# EAGLE library part TM4C123GH6PGET (library 32bits)
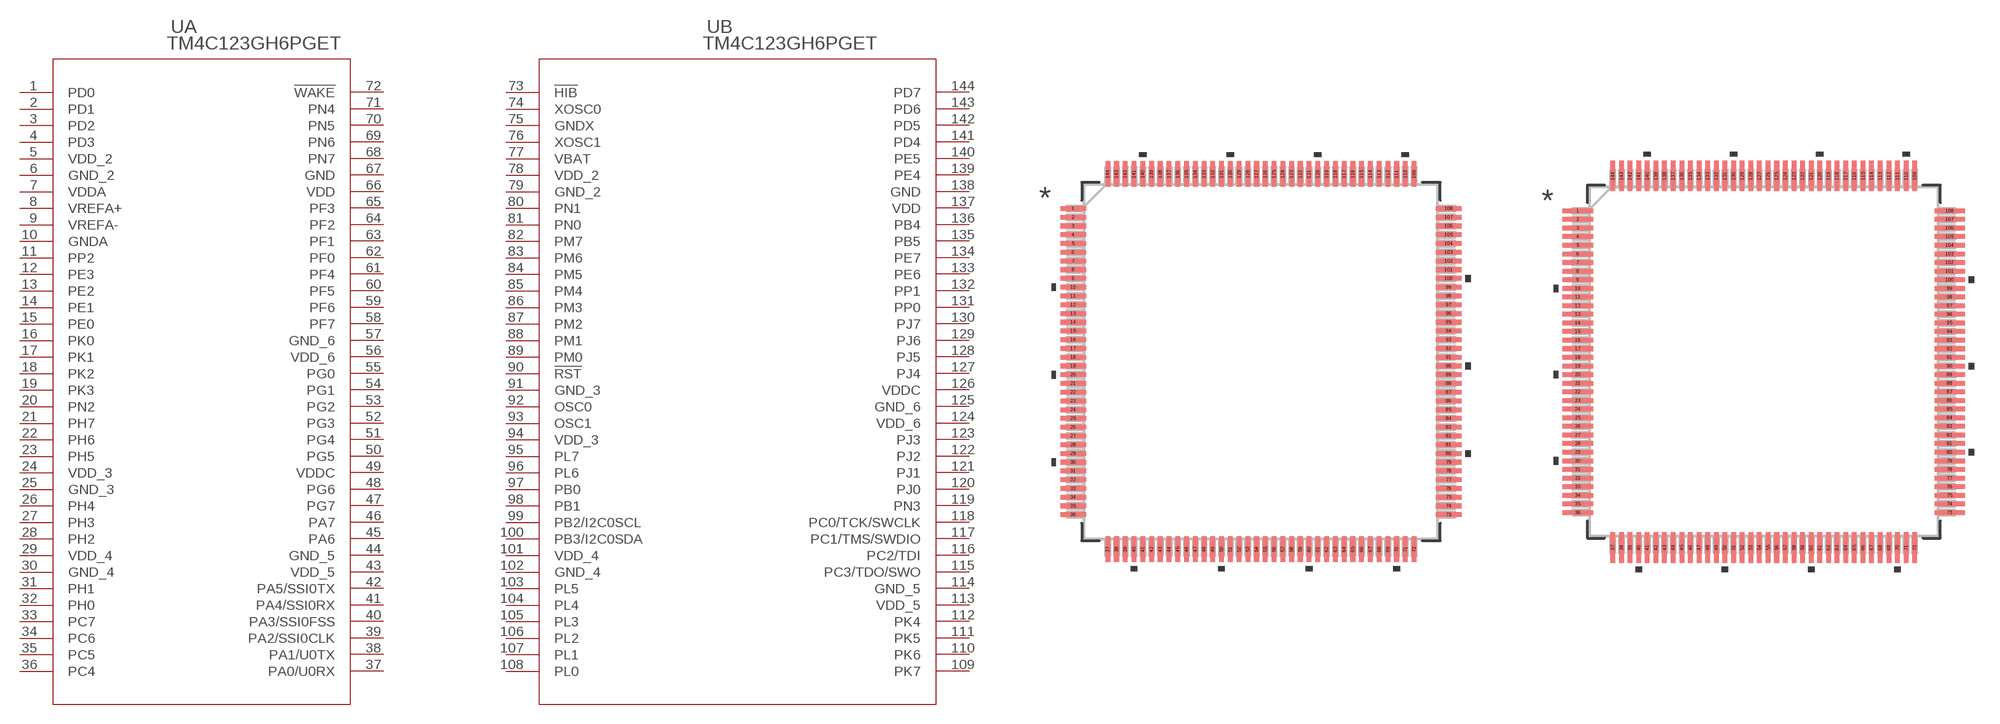
[diagram p8: symbol with the pads of PGE144; footprints PGE144, PGE144-M]

Designator prefix U; gates A=TM4C123GH6PGET_A B=TM4C123GH6PGET_B

## TM4C123GH6PGET (MANUFACTURER_PART_NUMBER: tm4c123gh6pget; VENDOR: Texas Instruments)  [PGE144]
1  A:PD0
2  A:PD1
3  A:PD2
4  A:PD3
5  A:VDD_2  pwr
6  A:GND_2  pwr
7  A:VDDA  pwr
8  A:VREFA+  pwr
9  A:VREFA-  pwr
10  A:GNDA  pwr
11  A:PP2
12  A:PE3
13  A:PE2
14  A:PE1
15  A:PE0
16  A:PK0
17  A:PK1
18  A:PK2
19  A:PK3
20  A:PN2
21  A:PH7
22  A:PH6
23  A:PH5
24  A:VDD_3  pwr
25  A:GND_3  pwr
26  A:PH4
27  A:PH3
28  A:PH2
29  A:VDD_4  pwr
30  A:GND_4  pwr
31  A:PH1
32  A:PH0
33  A:PC7
34  A:PC6
35  A:PC5
36  A:PC4
37  A:PA0/U0RX
38  A:PA1/U0TX
39  A:PA2/SSI0CLK
40  A:PA3/SSI0FSS
41  A:PA4/SSI0RX
42  A:PA5/SSI0TX
43  A:VDD_5  pwr
44  A:GND_5  pwr
45  A:PA6
46  A:PA7
47  A:PG7
48  A:PG6
49  A:VDDC  pwr
50  A:PG5
51  A:PG4
52  A:PG3
53  A:PG2
54  A:PG1
55  A:PG0
56  A:VDD_6  pwr
57  A:GND_6  pwr
58  A:PF7
59  A:PF6
60  A:PF5
61  A:PF4
62  A:PF0
63  A:PF1
64  A:PF2
65  A:PF3
66  A:VDD  pwr
67  A:GND  pwr
68  A:PN7
69  A:PN6
70  A:PN5
71  A:PN4
72  A:!WAKE  in
73  B:!HIB  out
74  B:XOSC0  in
75  B:GNDX  pwr
76  B:XOSC1  out
77  B:VBAT  pwr
78  B:VDD_2  pwr
79  B:GND_2  pwr
80  B:PN1
81  B:PN0
82  B:PM7
83  B:PM6
84  B:PM5
85  B:PM4
86  B:PM3
87  B:PM2
88  B:PM1
89  B:PM0
90  B:!RST  in
91  B:GND_3  pwr
92  B:OSC0  in
93  B:OSC1  out
94  B:VDD_3  pwr
95  B:PL7
96  B:PL6
97  B:PB0
98  B:PB1
99  B:PB2/I2C0SCL
100  B:PB3/I2C0SDA
101  B:VDD_4  pwr
102  B:GND_4  pwr
103  B:PL5
104  B:PL4
105  B:PL3
106  B:PL2
107  B:PL1
108  B:PL0
109  B:PK7
110  B:PK6
111  B:PK5
112  B:PK4
113  B:VDD_5  pwr
114  B:GND_5  pwr
115  B:PC3/TDO/SWO
116  B:PC2/TDI
117  B:PC1/TMS/SWDIO
118  B:PC0/TCK/SWCLK
119  B:PN3
120  B:PJ0
121  B:PJ1
122  B:PJ2
123  B:PJ3
124  B:VDD_6  pwr
125  B:GND_6  pwr
126  B:VDDC  pwr
127  B:PJ4
128  B:PJ5
129  B:PJ6
130  B:PJ7
131  B:PP0
132  B:PP1
133  B:PE6
134  B:PE7
135  B:PB5
136  B:PB4
137  B:VDD  pwr
138  B:GND  pwr
139  B:PE4
140  B:PE5
141  B:PD4
142  B:PD5
143  B:PD6
144  B:PD7

## TM4C123GH6PGETPGE144-M (MANUFACTURER_PART_NUMBER: tm4c123gh6pget; VENDOR: Texas Instruments)  [PGE144-M]
Pads as for PGE144

## TM4C123GH6PGETPGE144-L (MANUFACTURER_PART_NUMBER: tm4c123gh6pget; VENDOR: Texas Instruments)  [PGE144-L]
Pads as for PGE144

## Footprint PGE144 (pad centres in mm)
smd 1.461 x 0.27: 1 -10.725,8.75; 2 -10.725,8.25; 3 -10.725,7.75; 4 -10.725,7.25; 5 -10.725,6.75; 6 -10.725,6.25; 7 -10.725,5.75; 8 -10.725,5.25; 9 -10.725,4.75; 10 -10.725,4.25; 11 -10.725,3.75; 12 -10.725,3.25; 13 -10.725,2.75; 14 -10.725,2.25; 15 -10.725,1.75; 16 -10.725,1.25; 17 -10.725,0.75; 18 -10.725,0.25; 19 -10.725,-0.25; 20 -10.725,-0.75; 21 -10.725,-1.25; 22 -10.725,-1.75; 23 -10.725,-2.25; 24 -10.725,-2.75; 25 -10.725,-3.25; 26 -10.725,-3.75; 27 -10.725,-4.25; 28 -10.725,-4.75; 29 -10.725,-5.25; 30 -10.725,-5.75; 31 -10.725,-6.25; 32 -10.725,-6.75; 33 -10.725,-7.25; 34 -10.725,-7.75; 35 -10.725,-8.25; 36 -10.725,-8.75; 73 10.725,-8.75; 74 10.725,-8.25; 75 10.725,-7.75; 76 10.725,-7.25; 77 10.725,-6.75; 78 10.725,-6.25; 79 10.725,-5.75; 80 10.725,-5.25; 81 10.725,-4.75; 82 10.725,-4.25; 83 10.725,-3.75; 84 10.725,-3.25; 85 10.725,-2.75; 86 10.725,-2.25; 87 10.725,-1.75; 88 10.725,-1.25; 89 10.725,-0.75; 90 10.725,-0.25; 91 10.725,0.25; 92 10.725,0.75; 93 10.725,1.25; 94 10.725,1.75; 95 10.725,2.25; 96 10.725,2.75; 97 10.725,3.25; 98 10.725,3.75; 99 10.725,4.25; 100 10.725,4.75; 101 10.725,5.25; 102 10.725,5.75; 103 10.725,6.25; 104 10.725,6.75; 105 10.725,7.25; 106 10.725,7.75; 107 10.725,8.25; 108 10.725,8.75
smd 0.27 x 1.461: 37 -8.75,-10.725; 38 -8.25,-10.725; 39 -7.75,-10.725; 40 -7.25,-10.725; 41 -6.75,-10.725; 42 -6.25,-10.725; 43 -5.75,-10.725; 44 -5.25,-10.725; 45 -4.75,-10.725; 46 -4.25,-10.725; 47 -3.75,-10.725; 48 -3.25,-10.725; 49 -2.75,-10.725; 50 -2.25,-10.725; 51 -1.75,-10.725; 52 -1.25,-10.725; 53 -0.75,-10.725; 54 -0.25,-10.725; 55 0.25,-10.725; 56 0.75,-10.725; 57 1.25,-10.725; 58 1.75,-10.725; 59 2.25,-10.725; 60 2.75,-10.725; 61 3.25,-10.725; 62 3.75,-10.725; 63 4.25,-10.725; 64 4.75,-10.725; 65 5.25,-10.725; 66 5.75,-10.725; 67 6.25,-10.725; 68 6.75,-10.725; 69 7.25,-10.725; 70 7.75,-10.725; 71 8.25,-10.725; 72 8.75,-10.725; 109 8.75,10.725; 110 8.25,10.725; 111 7.75,10.725; 112 7.25,10.725; 113 6.75,10.725; 114 6.25,10.725; 115 5.75,10.725; 116 5.25,10.725; 117 4.75,10.725; 118 4.25,10.725; 119 3.75,10.725; 120 3.25,10.725; 121 2.75,10.725; 122 2.25,10.725; 123 1.75,10.725; 124 1.25,10.725; 125 0.75,10.725; 126 0.25,10.725; 127 -0.25,10.725; 128 -0.75,10.725; 129 -1.25,10.725; 130 -1.75,10.725; 131 -2.25,10.725; 132 -2.75,10.725; 133 -3.25,10.725; 134 -3.75,10.725; 135 -4.25,10.725; 136 -4.75,10.725; 137 -5.25,10.725; 138 -5.75,10.725; 139 -6.25,10.725; 140 -6.75,10.725; 141 -7.25,10.725; 142 -7.75,10.725; 143 -8.25,10.725; 144 -8.75,10.725

## Footprint PGE144-M (pad centres in mm)
smd 1.766 x 0.27: 1 -10.776,8.75; 2 -10.776,8.25; 3 -10.776,7.75; 4 -10.776,7.25; 5 -10.776,6.75; 6 -10.776,6.25; 7 -10.776,5.75; 8 -10.776,5.25; 9 -10.776,4.75; 10 -10.776,4.25; 11 -10.776,3.75; 12 -10.776,3.25; 13 -10.776,2.75; 14 -10.776,2.25; 15 -10.776,1.75; 16 -10.776,1.25; 17 -10.776,0.75; 18 -10.776,0.25; 19 -10.776,-0.25; 20 -10.776,-0.75; 21 -10.776,-1.25; 22 -10.776,-1.75; 23 -10.776,-2.25; 24 -10.776,-2.75; 25 -10.776,-3.25; 26 -10.776,-3.75; 27 -10.776,-4.25; 28 -10.776,-4.75; 29 -10.776,-5.25; 30 -10.776,-5.75; 31 -10.776,-6.25; 32 -10.776,-6.75; 33 -10.776,-7.25; 34 -10.776,-7.75; 35 -10.776,-8.25; 36 -10.776,-8.75; 73 10.776,-8.75; 74 10.776,-8.25; 75 10.776,-7.75; 76 10.776,-7.25; 77 10.776,-6.75; 78 10.776,-6.25; 79 10.776,-5.75; 80 10.776,-5.25; 81 10.776,-4.75; 82 10.776,-4.25; 83 10.776,-3.75; 84 10.776,-3.25; 85 10.776,-2.75; 86 10.776,-2.25; 87 10.776,-1.75; 88 10.776,-1.25; 89 10.776,-0.75; 90 10.776,-0.25; 91 10.776,0.25; 92 10.776,0.75; 93 10.776,1.25; 94 10.776,1.75; 95 10.776,2.25; 96 10.776,2.75; 97 10.776,3.25; 98 10.776,3.75; 99 10.776,4.25; 100 10.776,4.75; 101 10.776,5.25; 102 10.776,5.75; 103 10.776,6.25; 104 10.776,6.75; 105 10.776,7.25; 106 10.776,7.75; 107 10.776,8.25; 108 10.776,8.75
smd 0.27 x 1.766: 37 -8.75,-10.776; 38 -8.25,-10.776; 39 -7.75,-10.776; 40 -7.25,-10.776; 41 -6.75,-10.776; 42 -6.25,-10.776; 43 -5.75,-10.776; 44 -5.25,-10.776; 45 -4.75,-10.776; 46 -4.25,-10.776; 47 -3.75,-10.776; 48 -3.25,-10.776; 49 -2.75,-10.776; 50 -2.25,-10.776; 51 -1.75,-10.776; 52 -1.25,-10.776; 53 -0.75,-10.776; 54 -0.25,-10.776; 55 0.25,-10.776; 56 0.75,-10.776; 57 1.25,-10.776; 58 1.75,-10.776; 59 2.25,-10.776; 60 2.75,-10.776; 61 3.25,-10.776; 62 3.75,-10.776; 63 4.25,-10.776; 64 4.75,-10.776; 65 5.25,-10.776; 66 5.75,-10.776; 67 6.25,-10.776; 68 6.75,-10.776; 69 7.25,-10.776; 70 7.75,-10.776; 71 8.25,-10.776; 72 8.75,-10.776; 109 8.75,10.776; 110 8.25,10.776; 111 7.75,10.776; 112 7.25,10.776; 113 6.75,10.776; 114 6.25,10.776; 115 5.75,10.776; 116 5.25,10.776; 117 4.75,10.776; 118 4.25,10.776; 119 3.75,10.776; 120 3.25,10.776; 121 2.75,10.776; 122 2.25,10.776; 123 1.75,10.776; 124 1.25,10.776; 125 0.75,10.776; 126 0.25,10.776; 127 -0.25,10.776; 128 -0.75,10.776; 129 -1.25,10.776; 130 -1.75,10.776; 131 -2.25,10.776; 132 -2.75,10.776; 133 -3.25,10.776; 134 -3.75,10.776; 135 -4.25,10.776; 136 -4.75,10.776; 137 -5.25,10.776; 138 -5.75,10.776; 139 -6.25,10.776; 140 -6.75,10.776; 141 -7.25,10.776; 142 -7.75,10.776; 143 -8.25,10.776; 144 -8.75,10.776

## Footprint PGE144-L (pad centres in mm)
smd 1.156 x 0.27: 1 -10.674,8.75; 2 -10.674,8.25; 3 -10.674,7.75; 4 -10.674,7.25; 5 -10.674,6.75; 6 -10.674,6.25; 7 -10.674,5.75; 8 -10.674,5.25; 9 -10.674,4.75; 10 -10.674,4.25; 11 -10.674,3.75; 12 -10.674,3.25; 13 -10.674,2.75; 14 -10.674,2.25; 15 -10.674,1.75; 16 -10.674,1.25; 17 -10.674,0.75; 18 -10.674,0.25; 19 -10.674,-0.25; 20 -10.674,-0.75; 21 -10.674,-1.25; 22 -10.674,-1.75; 23 -10.674,-2.25; 24 -10.674,-2.75; 25 -10.674,-3.25; 26 -10.674,-3.75; 27 -10.674,-4.25; 28 -10.674,-4.75; 29 -10.674,-5.25; 30 -10.674,-5.75; 31 -10.674,-6.25; 32 -10.674,-6.75; 33 -10.674,-7.25; 34 -10.674,-7.75; 35 -10.674,-8.25; 36 -10.674,-8.75; 73 10.674,-8.75; 74 10.674,-8.25; 75 10.674,-7.75; 76 10.674,-7.25; 77 10.674,-6.75; 78 10.674,-6.25; 79 10.674,-5.75; 80 10.674,-5.25; 81 10.674,-4.75; 82 10.674,-4.25; 83 10.674,-3.75; 84 10.674,-3.25; 85 10.674,-2.75; 86 10.674,-2.25; 87 10.674,-1.75; 88 10.674,-1.25; 89 10.674,-0.75; 90 10.674,-0.25; 91 10.674,0.25; 92 10.674,0.75; 93 10.674,1.25; 94 10.674,1.75; 95 10.674,2.25; 96 10.674,2.75; 97 10.674,3.25; 98 10.674,3.75; 99 10.674,4.25; 100 10.674,4.75; 101 10.674,5.25; 102 10.674,5.75; 103 10.674,6.25; 104 10.674,6.75; 105 10.674,7.25; 106 10.674,7.75; 107 10.674,8.25; 108 10.674,8.75
smd 0.27 x 1.156: 37 -8.75,-10.674; 38 -8.25,-10.674; 39 -7.75,-10.674; 40 -7.25,-10.674; 41 -6.75,-10.674; 42 -6.25,-10.674; 43 -5.75,-10.674; 44 -5.25,-10.674; 45 -4.75,-10.674; 46 -4.25,-10.674; 47 -3.75,-10.674; 48 -3.25,-10.674; 49 -2.75,-10.674; 50 -2.25,-10.674; 51 -1.75,-10.674; 52 -1.25,-10.674; 53 -0.75,-10.674; 54 -0.25,-10.674; 55 0.25,-10.674; 56 0.75,-10.674; 57 1.25,-10.674; 58 1.75,-10.674; 59 2.25,-10.674; 60 2.75,-10.674; 61 3.25,-10.674; 62 3.75,-10.674; 63 4.25,-10.674; 64 4.75,-10.674; 65 5.25,-10.674; 66 5.75,-10.674; 67 6.25,-10.674; 68 6.75,-10.674; 69 7.25,-10.674; 70 7.75,-10.674; 71 8.25,-10.674; 72 8.75,-10.674; 109 8.75,10.674; 110 8.25,10.674; 111 7.75,10.674; 112 7.25,10.674; 113 6.75,10.674; 114 6.25,10.674; 115 5.75,10.674; 116 5.25,10.674; 117 4.75,10.674; 118 4.25,10.674; 119 3.75,10.674; 120 3.25,10.674; 121 2.75,10.674; 122 2.25,10.674; 123 1.75,10.674; 124 1.25,10.674; 125 0.75,10.674; 126 0.25,10.674; 127 -0.25,10.674; 128 -0.75,10.674; 129 -1.25,10.674; 130 -1.75,10.674; 131 -2.25,10.674; 132 -2.75,10.674; 133 -3.25,10.674; 134 -3.75,10.674; 135 -4.25,10.674; 136 -4.75,10.674; 137 -5.25,10.674; 138 -5.75,10.674; 139 -6.25,10.674; 140 -6.75,10.674; 141 -7.25,10.674; 142 -7.75,10.674; 143 -8.25,10.674; 144 -8.75,10.674